# EAGLE library part 613036243121 (library Board_to_Board_Connectors_rev15d)
WR-PHD Angled Dual Socket Header, 36 Pins =>Code : Con_BTB_SHD_2.54_2_613036243121 <http://katalog.we-online.de/media/images/eican/Con_BTB_SHD_2.54_2_6130xx243121_pf2.jpg> Details see: http://katalog.we-online.de/en/em/613_0xx_243_121 Created 2014-05-30, Karrer Zheng 2014 (C) Würth Elektronik
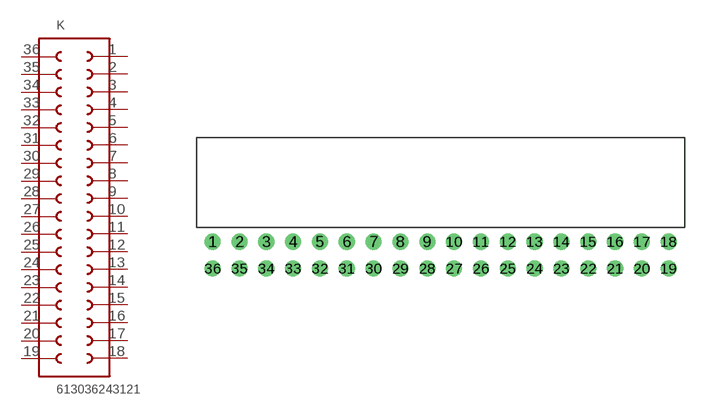
[diagram p150: symbol with the pads of 613036243121; footprint 613036243121]

Designator prefix K

## 613036243121  [613036243121]
1  1  pas
2  2  pas
3  3  pas
4  4  pas
5  5  pas
6  6  pas
7  7  pas
8  8  pas
9  9  pas
10  10  pas
11  11  pas
12  12  pas
13  13  pas
14  14  pas
15  15  pas
16  16  pas
17  17  pas
18  18  pas
19  19  pas
20  20  pas
21  21  pas
22  22  pas
23  23  pas
24  24  pas
25  25  pas
26  26  pas
27  27  pas
28  28  pas
29  29  pas
30  30  pas
31  31  pas
32  32  pas
33  33  pas
34  34  pas
35  35  pas
36  36  pas

## Footprint 613036243121 (pad centres in mm)
WR-PHD Angled Dual Socket Header, 36 Pins
drill 1.02: 1 -21.59,0; 2 -19.05,0; 3 -16.51,0; 4 -13.97,0; 5 -11.43,0; 6 -8.89,0; 7 -6.35,0; 8 -3.81,0; 9 -1.27,0; 10 1.27,0; 11 3.81,0; 12 6.35,0; 13 8.89,0; 14 11.43,0; 15 13.97,0; 16 16.51,0; 17 19.05,0; 18 21.59,0; 19 21.59,-2.54; 20 19.05,-2.54; 21 16.51,-2.54; 22 13.97,-2.54; 23 11.43,-2.54; 24 8.89,-2.54; 25 6.35,-2.54; 26 3.81,-2.54; 27 1.27,-2.54; 28 -1.27,-2.54; 29 -3.81,-2.54; 30 -6.35,-2.54; 31 -8.89,-2.54; 32 -11.43,-2.54; 33 -13.97,-2.54; 34 -16.51,-2.54; 35 -19.05,-2.54; 36 -21.59,-2.54